# Altium schematic symbol library sensor_current.SchLib: 20 symbols
Pins are listed as number, name and electrical type; pins without a type are passive.

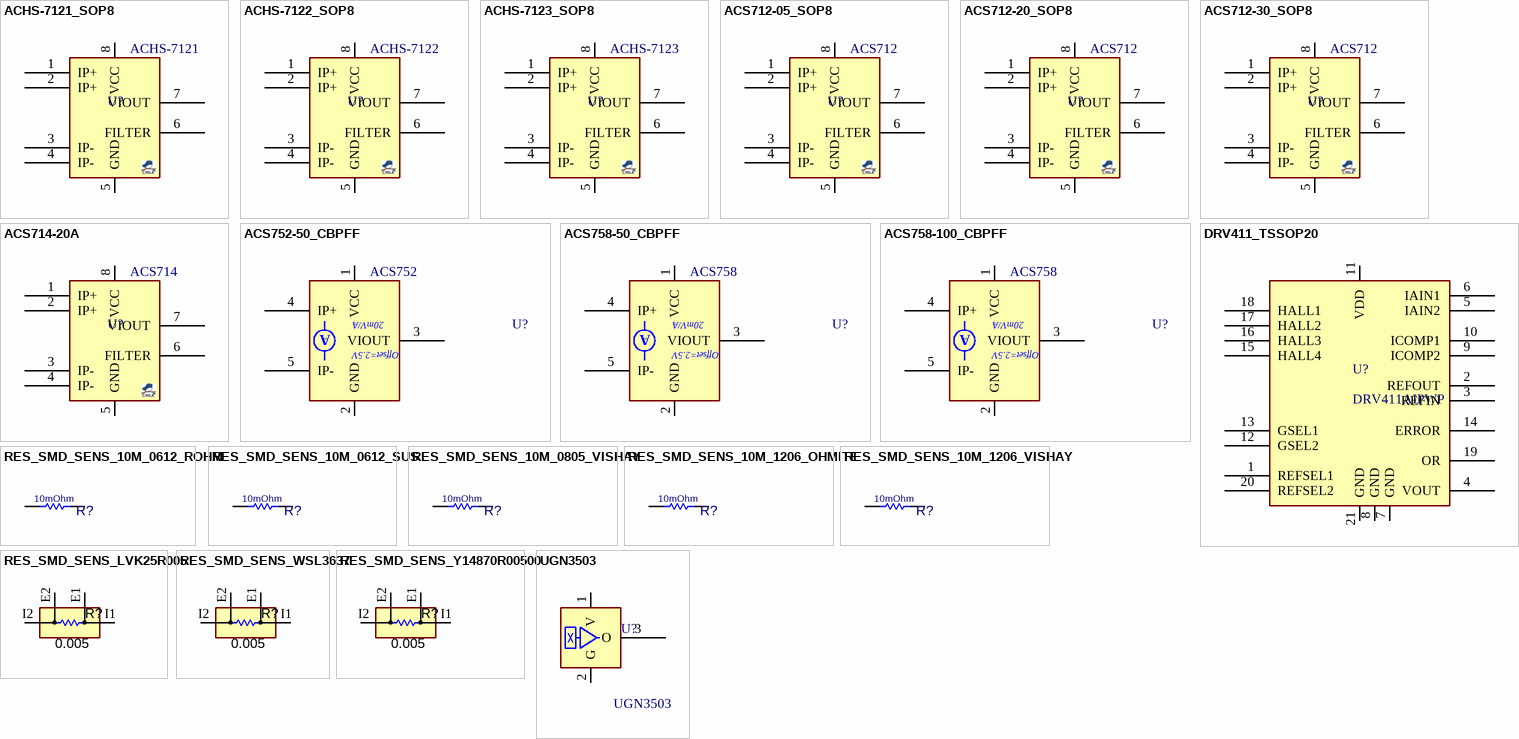
[diagram p0: symbols ACHS-7121_SOP8 to UGN3503]

## ACHS-7121_SOP8
designator U?, comment ACHS-7121
IC, CURRENT SENSOR, HALL EFFECT, ±10A; MANF: Broadcom/Avago; MANF_P#: ACHS-7121-000E; PARAM2: 5Vcc, 80KHz BW; PARAM: 185mV/A, ±10A max, -40~85oC; PRICE: 1000: 2$; VALUE: ACHS-7121
footprint SO_8
pins: 1 IP+, 2 IP+, 3 IP-, 4 IP-, 5 GND, 6 FILTER, 7 VIOUT, 8 VCC

## ACHS-7122_SOP8
designator U?, comment ACHS-7122
IC, CURRENT SENSOR, HALL EFFECT, ±30A; MANF: Broadcom/Avago; MANF_P#: ACHS-7122-000E; PARAM2: 5Vcc, 80KHz BW; PARAM: 66mV/A, ±30A max, -40~85oC; PRICE: 1000: 2$; VALUE: ACHS-7122
footprint SO_8
pins: 1 IP+, 2 IP+, 3 IP-, 4 IP-, 5 GND, 6 FILTER, 7 VIOUT, 8 VCC

## ACHS-7123_SOP8
designator U?, comment ACHS-7123
IC, CURRENT SENSOR, HALL EFFECT, ±30A; MANF: Broadcom/Avago; MANF_P#: ACHS-7123-000E; PARAM2: 5Vcc, 80KHz BW; PARAM: 66mV/A, ±30A max, -40~85oC; PRICE: 1000: 2$; VALUE: ACHS-7123
footprint SO_8
pins: 1 IP+, 2 IP+, 3 IP-, 4 IP-, 5 GND, 6 FILTER, 7 VIOUT, 8 VCC

## ACS712-05_SOP8
designator U?, comment ACS712
IC, CURRENT SENSOR, HALL EFFECT, ±5A; MANF: Allegro; MANF_P#: ACS712ELCTR-05B; PARAM2: 5Vcc, 80KHz BW; PARAM: 66~185mV/A, ±5A max, -40~85oC; PRICE: 1000: 2$; VALUE: ACS712
footprint SO_8
pins: 1 IP+, 2 IP+, 3 IP-, 4 IP-, 5 GND, 6 FILTER, 7 VIOUT, 8 VCC

## ACS712-20_SOP8
designator U?, comment ACS712
IC, CURRENT SENSOR, HALL EFFECT, ±20A; MANF: Allegro; MANF_P#: ACS712ELCTR-20A; PARAM2: 5Vcc, 80KHz BW; PARAM: 100mV/A, ±20A max, -40~85oC; PRICE: 1000: 2$; VALUE: ACS712
footprint SO_8
pins: 1 IP+, 2 IP+, 3 IP-, 4 IP-, 5 GND, 6 FILTER, 7 VIOUT, 8 VCC

## ACS712-30_SOP8
designator U?, comment ACS712
IC, CURRENT SENSOR, HALL EFFECT, ±30A; MANF: Allegro; MANF_P#: ACS712ELCTR-30A; PARAM2: 5Vcc, 80KHz BW; PARAM: 66mV/A, ±30A max, -40~85oC; PRICE: 1000: 2$; VALUE: ACS712
footprint SO_8
pins: 1 IP+, 2 IP+, 3 IP-, 4 IP-, 5 GND, 6 FILTER, 7 VIOUT, 8 VCC

## ACS714-20A
designator U?, comment ACS714
IC, CURRENT SENSOR, HALL EFFECT Linear, 1.2mO, Isolated; MANF: Allegro; MANF_P#: ACS714LLCTR-20A-T; PARAM: ±20A; VALUE: ACS714
footprint SO_8 (SOP-8, 5x3.9mm body 1.27mm pitch, SOT96-1, M08A, S8, SOIC8, VO8, MS-012AA(JEDEC), R-8, 8S2, VOG8)
pins: 1 IP+, 2 IP+, 3 IP-, 4 IP-, 5 GND, 6 FILTER, 7 VIOUT, 8 VCC

## ACS752-50_CBPFF
designator U?, comment ACS752
IC, CURRENT SENSOR, HALL EFFECT Linear, ±50A; MANF: Allegro; PARAM: ±50A, 20mV/A; PARAM2: +5Vcc, 2.5Vo-Offset; MANF_P#: ACS752SCA-050; VALUE: ACS752
footprint CB_5_PFF (ACS752, ACS758)
pins: 1 VCC (power), 2 GND (power), 3 VIOUT, 4 IP+, 5 IP-
text: 20mV/A; A; Offset=2.5V

## ACS758-50_CBPFF
designator U?, comment ACS758
IC, CURRENT SENSOR, HALL EFFECT Linear, ±50A; MANF: Allegro; PARAM: ±50A, 20mV/A; PARAM2: +5Vcc, 2.5Vo-Offset; MANF_P#: ACS758LCB-050B-PFF; VALUE: ACS758
footprint CB_5_PFF (ACS752, ACS758)
pins: 1 VCC (power), 2 GND (power), 3 VIOUT, 4 IP+, 5 IP-
text: 20mV/A; A; Offset=2.5V

## ACS758-100_CBPFF
designator U?, comment ACS758
IC, CURRENT SENSOR, HALL EFFECT Linear, ±100A; MANF: Allegro; PARAM: -/+100A, 20mV/A; PARAM2: +5Vcc, 2.5Vo-Offset; MANF_P#: ACS758LCB-100B-PFF; VALUE: ACS758
footprint CB_5_PFF (ACS752, ACS758)
pins: 1 VCC (power), 2 GND (power), 3 VIOUT, 4 IP+, 5 IP-
text: 20mV/A; A; Offset=2.5V

## DRV411_TSSOP20
designator U?, comment DRV411AIPWP
IC, CURRENT SENSOR, HALL EFFECT; MANF: ti; PARAM2: 2.7~5.5Vcc; PARAM: 200kHz; VALUE: DRV411; MANF_P#: DRV411AIPWP
footprint SOG65_20T (TSSOP 4.4mm(MAXIM), MO-153-ACT (JEDEC), 20Lead, pitch: 0.65mm, 6.5x4.4x1.2mm)
pins: 1 REFSEL1, 2 REFOUT, 3 REFIN, 4 VOUT, 5 IAIN2, 6 IAIN1, 7 GND, 8 GND, 9 ICOMP2, 10 ICOMP1, 11 VDD, 12 GSEL2, 13 GSEL1, 14 ERROR, 15 HALL4, 16 HALL3, 17 HALL2, 18 HALL1, 19 OR, 20 REFSEL2, 21 GND

## RES_SMD_SENS_10M_0612_ROHM
designator R?, comment 10mOhm
RESISTOR, SMD, SENS, 0.01Ohm, 0.5W; MANF_P#: LTR18EZPFU10L0; MANF: ROHM; PARAM: 0.5W, -55~155oC; DESC: DESCRIPTION; DIST#: MOUSER; PARAM2: 1%; ASSEMBLY: ASSEMBLY; PRICE: 0.5$; VALUE: 10mOhm
footprint R0612 (CHIP RESISTOR 1/4 WATT, Body 1.6x3.2mm, 1632, 0612)
pins: 1, 2

## RES_SMD_SENS_10M_0612_SUS
designator R?, comment 10mOhm
RESISTOR, SMD, SENS, 0.01Ohm, 0.75W; MANF_P#: KRL1632E-M-R010-F-T5; MANF: SUSUMU; PARAM: 0.75W, -55~155oC; DESC: DESCRIPTION; DIST#: MOUSER; PARAM2: 1%; ASSEMBLY: ASSEMBLY; PRICE: 0.5$; VALUE: 10mOhm
footprint R0612 (CHIP RESISTOR 1/4 WATT, Body 1.6x3.2mm, 1632, 0612)
pins: 1, 2

## RES_SMD_SENS_10M_0805_VISHAY
designator R?, comment 10mOhm
RESISTOR, SMD, SENS, 0.01Ohm, 0.5W; MANF_P#: WSLP0805R0100FEA; MANF: VISHAY; PARAM: 0.5W, -55~155oC; DESC: DESCRIPTION; DIST#: MOUSER; PARAM2: 1%; ASSEMBLY: ASSEMBLY; PRICE: 0.5$; VALUE: 10mOhm
footprint R0805 (CHIP RESISTOR 1/8 WATT ,2.0X1.3mm, 0805, 2012)
pins: 1, 2

## RES_SMD_SENS_10M_1206_OHMITE
designator R?, comment 10mOhm
RESISTOR, SMD, SENS, 0.01Ohm, 0.5W; MANF_P#: LVM12FTR010E-TR; MANF: Ohmite; PARAM: 0.5W, -55~155oC; DESC: DESCRIPTION; DIST#: MOUSER; PARAM2: 1%; ASSEMBLY: ASSEMBLY; PRICE: 0.66$; VALUE: 10mOhm
footprint R1206 (CHIP RESISTOR 1/4 WATT, Body 3.2x1.6mm,1206, 3216)
pins: 1, 2

## RES_SMD_SENS_10M_1206_VISHAY
designator R?, comment 10mOhm
RESISTOR, SMD, SENS, 0.01Ohm, 0.5W; MANF_P#: WSK1206R0100FEA18; MANF: VISHAY; PARAM: 0.5W, -65~170oC; DESC: DESCRIPTION; DIST#: MOUSER; PARAM2: 1%; ASSEMBLY: ASSEMBLY; PRICE: 0.8$; VALUE: 10mOhm
footprint R1206 (CHIP RESISTOR 1/4 WATT, Body 3.2x1.6mm,1206, 3216)
pins: 1, 2

## RES_SMD_SENS_LVK25R005
designator R?, comment 0.005
RESISTOR, SMD, SENS, 0.005 OHM, 1W, 0.1%; PARAM2: ±15ppm/°C; MANF: OHMITE; MANF_P#: LVK25R005FER; PARAM: ±0.1%; Value: 0.005
footprint RS1224 (RESISTOR SHUNT SMD, 6.4X3.2mm, 1224, LVK25R005FER)
pins: E1 S, E2 S, I1 I, I2 I

## RES_SMD_SENS_WSL3637
designator R?, comment 0.005
RESISTOR, SMD, SENS, 0.01 OHM, 3W, 0.5%, 3637; PARAM2: ±20ppm/°C; MANF: Vishay; MANF_P#: WSL3637R0100FEA; PARAM: ±0.5%; Value: 0.005
footprint RS3637 (RESISTOR SHUNT SMD, 9.1X9.4mm, 3637, LVK25R005FER)
pins: E1 S, E2 S, I1 I, I2 I

## RES_SMD_SENS_Y14870R00500
designator R?, comment 0.005
RESISTOR, SMD, SENS, 0.005 OHM, 1W, 0.1%, 2512; PARAM2: ±15ppm/°C; MANF: Vishay; MANF_P#: Y14870R00500B9W; PARAM: ±0.1%; Value: 0.005
footprint RS2512 (RESISTOR SHUNT SMD, 6.3x3.2mm, 2512)
pins: E1 S, E2 S, I1 I, I2 I

## UGN3503
designator U?
Sensor, Hall Effect, Ratiometric, 5-Volt; MANF: Allegro; MANF_P#: UGN3503; VALUE: UGN3503
footprint TO92_3 (TO-92)
pins: 1 V (power), 2 G, 3 O